# Altium footprint library VSH-WSLP2726.PcbLib: 1 footprints
Each footprint in its own frame and in the unit in brackets; x right, y up, seen from the top. Pads: shape width x height; smd on the part's side, far side on the other; paste and mask are expansions set on the pad; w line width, h text height; cw(c..) or ccw(c..) is an arc to the next point about the centre after c.
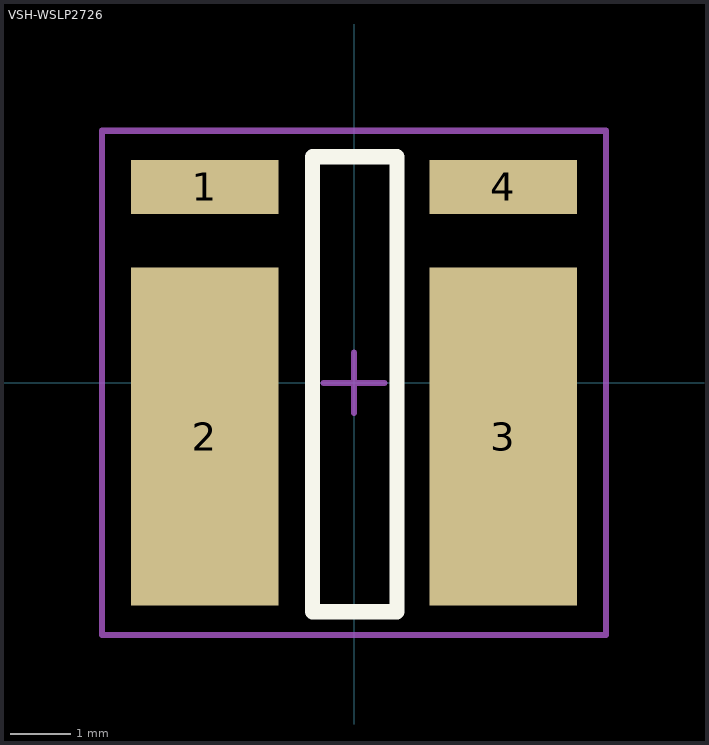
[diagram p0: the footprint, top view; thin cyan lines are the x and y axes]

## VSH-WSLP2726 [mil] "4-Leads, Body 6.6x6.9mm"
height 118.11
pads (4):
  rect 96x35 smd: 1(-97,127.5) 4(97,127.5)
  rect 96x220 smd: 2(-97,-35) 3(97,-35)
Top Overlay:
  lines w10: -27,-149 28,-149 28,147 -27,147 -27,-149
Mechanical 15:
  lines w3.94: -19.68,0 19.69,0 ; 0,-19.68 0,19.69 ; -164,-164 -164,164 164,164 164,-164 -164,-164
3D body: height 141.97, standoff 0, extent -129.93,-135.83 129.92,135.83